# EAGLE library part LTC1156* (library mike-temp)
LTC1156 Quad High Side Micropower MOSFET Driver with Internal Charge Pump The LTC1156 quad High side gate driver allows using low cost N-channel FETs for high side switching applications. An internal charge pump boosts the gate drive voltage above the positive rail, fully enhancing an N-channel MOS switch with no external components. Micropower operation, with 16mA standby current and 95mA operating current, allows use in virtually all systems with maximum efficiency. Included on chip is independent over-current sensing to provide automatic shutdown in case of short circuits. A time delay can be added to the current sense to prevent false triggering on high in-rush current loads. The LTC1156 operates off of a 4.5V to 18V supply and is well suited for battery-powered applications, particularly where micropower sleep operation is required. The LTC1156 is available in both 16-pin DIP and 16-pin SOL packages.
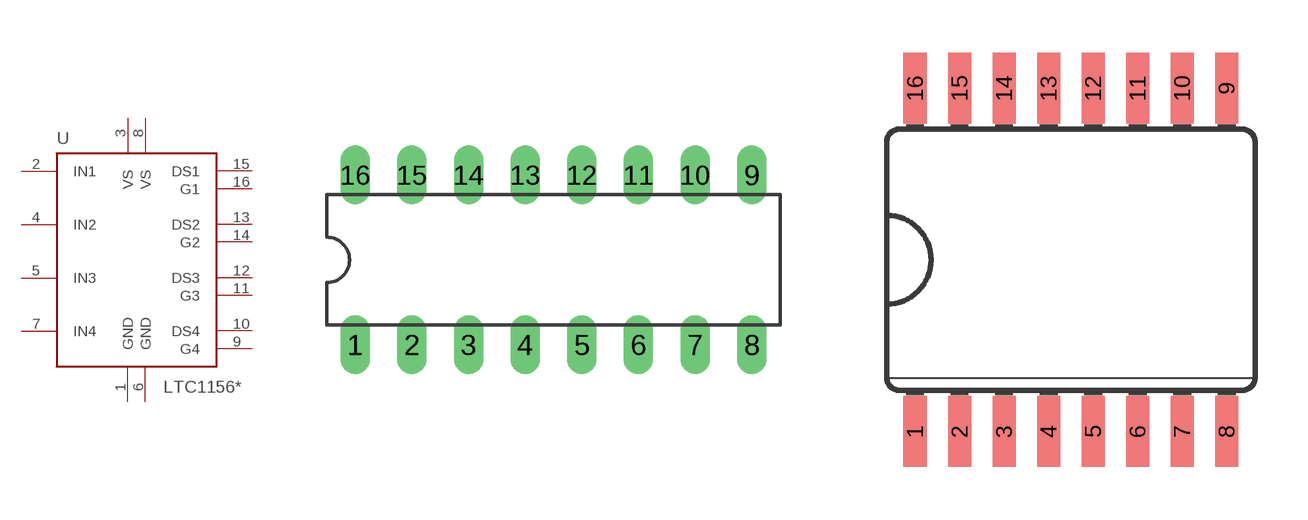
[diagram p3: symbol with the pads of DIL16; footprints DIL16, SO16L]

Designator prefix U

## LTC1156CN  [DIL16]
1  GND
2  IN1
3  VS
4  IN2
5  IN3
6  GND
7  IN4
8  VS
9  G4
10  DS4
11  G3
12  DS3
13  DS2
14  G2
15  DS1
16  G1

## LTC1156CS  [SO16L]
Pads as for DIL16

## Footprint DIL16 (pad centres in mm)
Dual In Line Package
drill 0.813 long: 1 -8.89,-3.81; 2 -6.35,-3.81; 3 -3.81,-3.81; 4 -1.27,-3.81; 5 1.27,-3.81; 6 3.81,-3.81; 7 6.35,-3.81; 8 8.89,-3.81; 9 8.89,3.81; 10 6.35,3.81; 11 3.81,3.81; 12 1.27,3.81; 13 -1.27,3.81; 14 -3.81,3.81; 15 -6.35,3.81; 16 -8.89,3.81

## Footprint SO16L (pad centres in mm)
Small Outline Package .300 SIOC Source: http://www.maxim-ic.com/cgi-bin/packages?pkg=16%2FSOIC%2E300&Type=Max
smd 0.66 x 2.032: 1 -4.445,-4.902; 2 -3.175,-4.902; 3 -1.905,-4.902; 4 -0.635,-4.902; 5 0.635,-4.902; 6 1.905,-4.902; 7 3.175,-4.902; 8 4.445,-4.902; 9 4.445,4.902; 10 3.175,4.902; 11 1.905,4.902; 12 0.635,4.902; 13 -0.635,4.902; 14 -1.905,4.902; 15 -3.175,4.902; 16 -4.445,4.902